# EAGLE library part LM358N (library LM358N)
IC OPAMP GP 2 CIRCUIT 8DIP
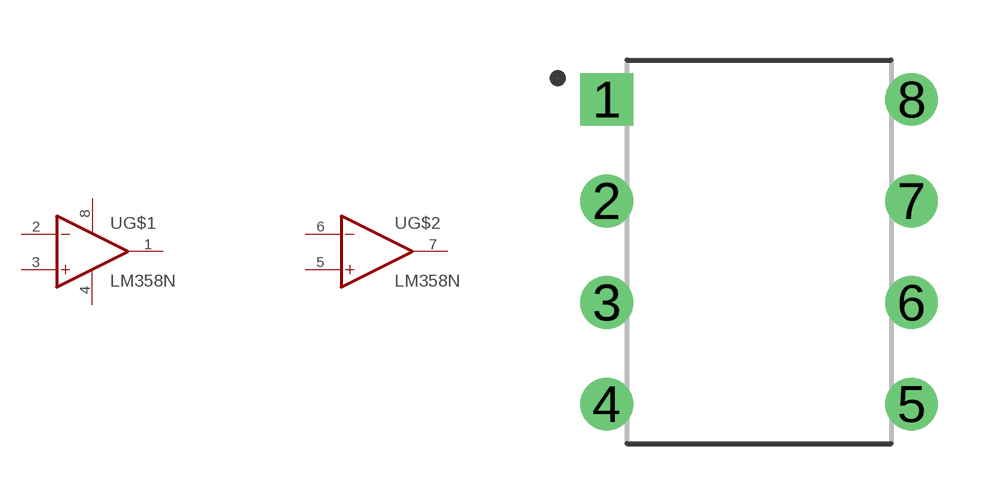
[diagram p0: symbol with the pads of DIP762W46P254L960H508Q8; footprint DIP762W46P254L960H508Q8]

Designator prefix U; gates G$1=LM358N_SECTION1 G$2=LM358N_SECTION2

## LM358N (Availability: Unavailable; Description: General Purpose Amplifier 2 Circuit 8-DIP; MF: ON Semiconductor; MP: LM358N; Package: DIP-8 Intersil; Price: None)  [DIP762W46P254L960H508Q8]
1  G$1:1OUT  out
2  G$1:1IN-  in
3  G$1:1IN+  in
4  G$1:GND  pwr
5  G$2:2IN+  in
6  G$2:2IN-  in
7  G$2:2OUT  out
8  G$1:VCC  pwr

## Footprint DIP762W46P254L960H508Q8 (pad centres in mm)
drill 0.81 pad 1.22 square: 1 -3.81,3.81
drill 0.81 pad 1.22: 2 -3.81,1.27; 3 -3.81,-1.27; 4 -3.81,-3.81; 5 3.81,-3.81; 6 3.81,-1.27; 7 3.81,1.27; 8 3.81,3.81